# Altium footprint library 4149.36-1.PcbLib: 1 footprints
Each footprint in its own frame and in the unit in brackets; x right, y up, seen from the top. Pads: shape width x height; smd on the part's side, far side on the other; paste and mask are expansions set on the pad; w line width, h text height; cw(c..) or ccw(c..) is an arc to the next point about the centre after c.
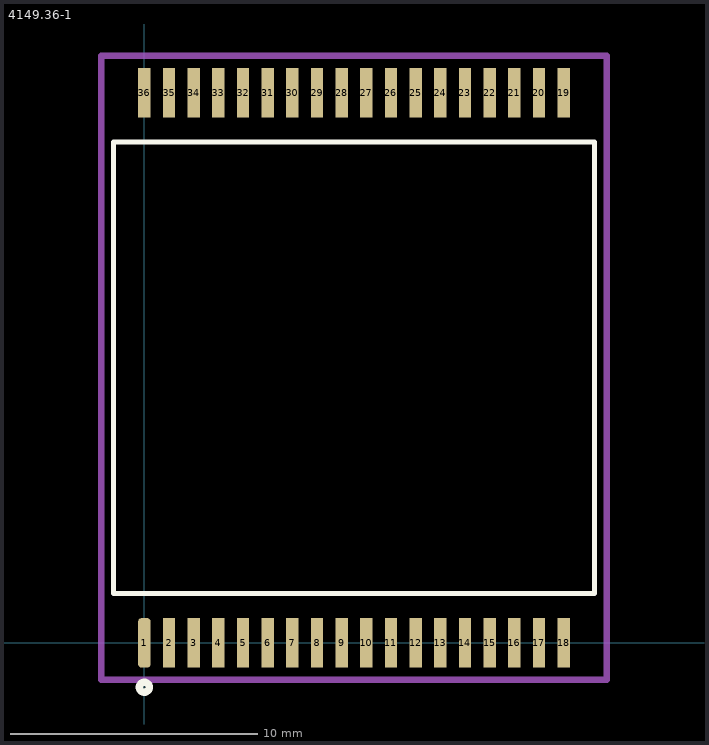
[diagram p0: the footprint, top view; thin cyan lines are the x and y axes]

## 4149.36-1 [mm]
pads (36):
  rrect50% 0.5x2 smd: 1(0,0)
  rect 0.5x2 smd: 2(1,0) 3(2,0) 4(3,0) 5(4,0) 6(5,0) 7(6,0) 8(7,0) 9(8,0) 10(9,0) 11(10,0) 12(11,0) 13(12,0) 14(13,0) 15(14,0) 16(15,0) 17(16,0) 18(17,0) 19(17,22.3) 20(16,22.3) 21(15,22.3) 22(14,22.3) 23(13,22.3) 24(12,22.3) 25(11,22.3) 26(10,22.3) 27(9,22.3) 28(8,22.3) 29(7,22.3) 30(6,22.3) 31(5,22.3) 32(4,22.3) 33(3,22.3) 34(2,22.3) 35(1,22.3) 36(0,22.3)
Top Overlay:
  circle w0.3: c0,-1.8 r0.2
  lines w0.2: -1.25,2 18.25,2 18.25,20.3 -1.25,20.3 -1.25,2
Mechanical 15:
  lines w0.254: -1.75,-1.5 -1.75,23.8 18.75,23.8 18.75,-1.5 -1.75,-1.5
3D body "4149.36-1.STEP": height 3, standoff 0, extent -1.25,-0.9 18.25,23.2